# EAGLE library part DRV8837DSGR (library PowerICs)
DRV8837DSGR, DC Motor Driver IC see datasheet for more information datasheet <http://www.ti.com/lit/ds/symlink/drv8837.pdf>
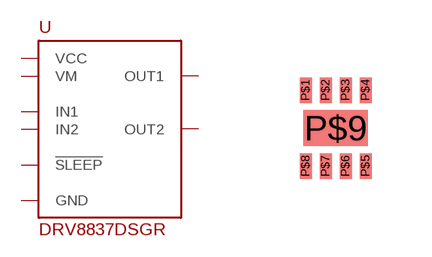
[diagram p1: symbol with the pads of 8-WSON; footprint 8-WSON]

Designator prefix U

## DRV8837DSGR (DIGIKEYPART#: 296-34806-1-ND)  [8-WSON]
P$1  VM
P$2  OUT1
P$3  OUT2
P$4  GND
P$5  IN2
P$6  IN1
P$7  !SLEEP
P$8  VCC

## Footprint 8-WSON (pad centres in mm)
WSON-8 Package
smd 0.3 x 0.64: P$1 -0.75,0.95; P$2 -0.25,0.95; P$3 0.25,0.95; P$4 0.75,0.95; P$5 0.75,-0.95; P$6 0.25,-0.95; P$7 -0.25,-0.95; P$8 -0.75,-0.95
smd 1.6 x 0.9: P$9 0,0